# Altium footprint library PCB_Altium_Library_Manuel.PcbLib: 63 footprints (part 4 of 4)
Each footprint in its own frame and in the unit in brackets; x right, y up, seen from the top. Pads: shape width x height; smd on the part's side, far side on the other; paste and mask are expansions set on the pad; w line width, h text height; cw(c..) or ccw(c..) is an arc to the next point about the centre after c.
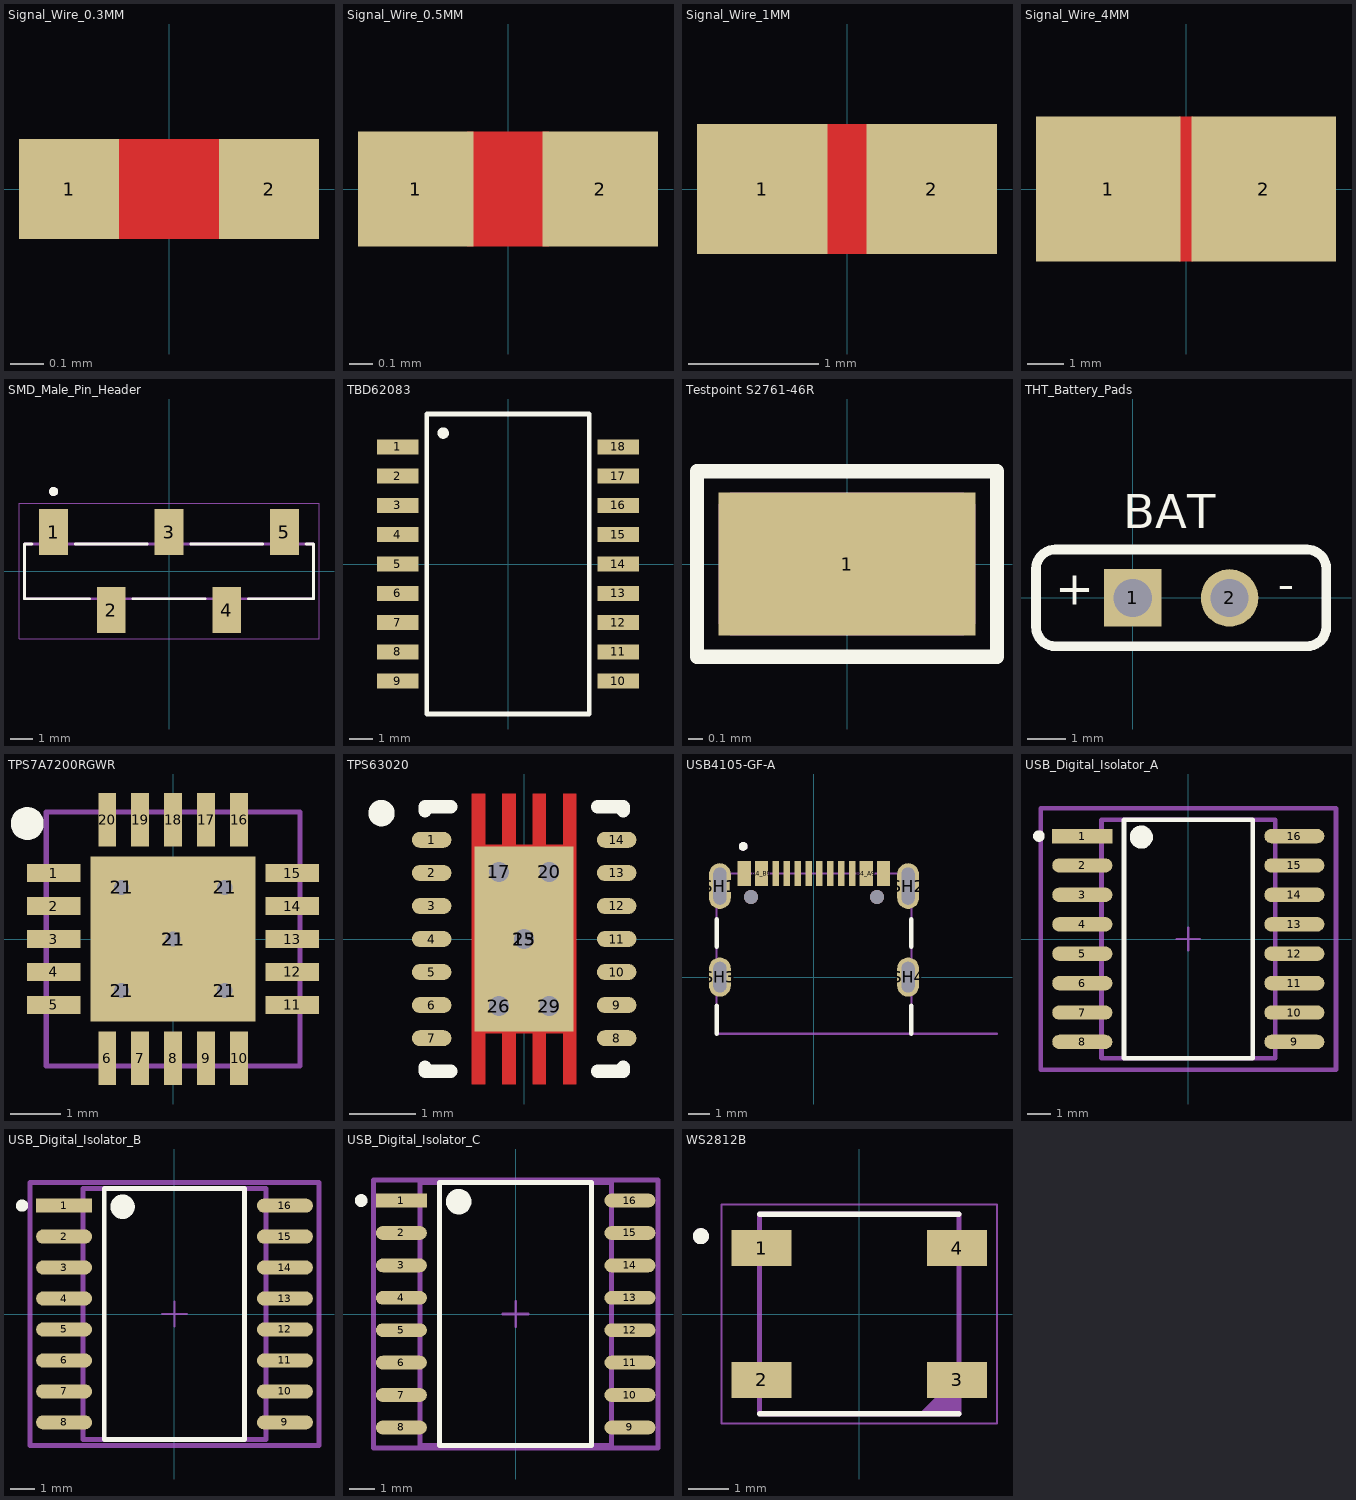
[diagram p3: the footprints below, top view; thin cyan lines are the x and y axes]

## Signal_Wire_0.3MM [mm] "Signal wire to connect two different signals in schematic"
pads (2):
  rect 0.3x0.3 smd paste-0.2 mask-0.2: 1(-0.3,0) 2(0.3,0)
Top Layer:
  rectangle: -0.2,-0.15 0.2,0.15

## Signal_Wire_0.5MM [mm] "Signal wire to connect two different signals in schematic"
pads (2):
  rect 0.5x0.5 smd paste-0.4 mask+0.102: 1(-0.4,0) 2(0.4,0)
Top Layer:
  rectangle: -0.175,-0.25 0.175,0.25

## Signal_Wire_1MM [mm] "Signal wire to connect two different signals in schematic"
pads (2):
  rect 1x1 smd paste-0.8 mask+0.102: 1(-0.65,0) 2(0.65,0)
Top Layer:
  rectangle: -0.175,-0.5 0.175,0.5

## Signal_Wire_4MM [mm] "Signal wire (Power) to connect two different signals in schematic"
pads (2):
  rect 4x4 smd paste-3 mask+0.102: 1(-2.15,0) 2(2.15,0)
Top Layer:
  rectangle: -0.2,-2 0.2,2

## SMD_Male_Pin_Header [mm] "10129380-905001BLF, 5x1 2.54mm Male Pin Header."
pads (5):
  rect 1.27x2.03 smd: 1(-5.08,1.715) 2(-2.54,-1.715) 3(0,1.715) 4(2.54,-1.715) 5(5.08,1.715)
Top Overlay:
  circle w0.2: c-5.08,3.5 r0.1
  lines w0.127: -6.035,1.19 -6.35,1.19 -6.35,-1.22 -3.495,-1.22 ; -4.125,1.19 -0.955,1.19 ; -1.585,-1.22 1.585,-1.22 ; 0.955,1.19 4.125,1.19 ; 3.495,-1.22 6.35,-1.22 6.35,1.19 6.035,1.19
Mechanical 13:
  circle w0.2: c-5.08,3.5 r0.1
  lines w0.127: -6.35,-1.22 -6.35,1.19 6.35,1.19 6.35,-1.22 -6.35,-1.22
Mechanical 15:
  lines w0.05: -6.6,-2.98 -6.6,2.98 6.6,2.98 6.6,-2.98 -6.6,-2.98
3D body "step_temp.STEP": height 9.85, standoff 0, extent -6.35,-2.415 6.35,2.415

## TBD62083 [mm] "Gate Drivers DMOS Transistor Array 8-CH, 50V/0.5A SOP-18"
pads (18):
  rect 1.8x0.65 smd: 1(-4.775,5.08) 2(-4.775,3.81) 3(-4.775,2.54) 4(-4.775,1.27) 5(-4.775,0) 6(-4.775,-1.27) 7(-4.775,-2.54) 8(-4.775,-3.81) 9(-4.775,-5.08) 10(4.775,-5.08) 11(4.775,-3.81) 12(4.775,-2.54) 13(4.775,-1.27) 14(4.775,0) 15(4.775,1.27) 16(4.775,2.54) 17(4.775,3.81) 18(4.775,5.08)
Top Overlay:
  circle w0.3: c-2.809,5.673 r0.1
  lines w0.2: -3.525,-6.5 3.525,-6.5 3.525,6.5 -3.525,6.5 -3.525,-6.5
Mechanical 15:
  lines w0.1: -3.5,-6.5 3.5,-6.5 3.5,6.5 -3.5,6.5 -3.5,-6.5
3D body "TBD62083AFG,EL.stp": height 2.45, standoff 0, extent -5.15,-6.5 5.15,6.5

## Testpoint S2761-46R [mm] "Prüfstecker und Messbuchsen EZ BoardWare S27 SMT Mini Test Terminal, Reel"
pads (1):
  rect 1.8x1 smd: 1(0,0)
Top Overlay:
  lines w0.1: -1.05,-0.65 -1.05,0.65 1.05,0.65 1.05,-0.65 -1.05,-0.65
Mechanical 15:
  lines w0.2: -0.8,-0.4 -0.8,0.4 0.8,0.4 0.8,-0.4 -0.8,-0.4
3D body "S2761-46R.stp": height 1.23, standoff 0.05, extent -0.8,-0.4 0.8,0.4

## THT_Battery_Pads [mm] "Pads to connect battery"
pads (2):
  rect 1.508x1.508 / inner round 1.508 / far side rect 1.508x1.508 hole 1: 1(0,0)
  round 1.508 hole 1: 2(2.54,0)
Top Overlay:
  lines w0.254: -2.54,-0.762 ccw(c-2.032,-0.762) -2.032,-1.27 4.572,-1.27 ccw(c4.572,-0.762) 5.08,-0.762 5.08,0.762 ccw(c4.572,0.762) 4.572,1.27 -2.032,1.27 ccw(c-2.032,0.762) -2.54,0.762 -2.54,-0.762
  text "-" at 3.81,-0.353 h1.52
  text "+" at -2.032,-0.48 h1.52
  text "BAT" at -0.254,1.524 h1.52

## TPS7A7200RGWR [mm] "Festspannungsregler 3V, Mouser Nr. 595-TPS7A7200RGWR"
pads (26):
  rect 1.05x0.35 smd: 1(-2.35,1.3) 2(-2.35,0.65) 3(-2.35,0) 4(-2.35,-0.65) 5(-2.35,-1.3) 11(2.35,-1.3) 12(2.35,-0.65) 13(2.35,0) 14(2.35,0.65) 15(2.35,1.3)
  rect 0.35x1.05 smd: 6(-1.3,-2.35) 7(-0.65,-2.35) 8(0,-2.35) 9(0.65,-2.35) 10(1.3,-2.35) 16(1.3,2.35) 17(0.65,2.35) 18(0,2.35) 19(-0.65,2.35) 20(-1.3,2.35)
  round 0.7 hole 0.3: 21(-1.016,-1.016) 21(-1.016,1.016) 21(0,0) 21(1.016,-1.016) 21(1.016,1.016)
  rect 3.25x3.25 smd: 21(0,0)
Top Overlay:
  circle w0.325: c-2.875,2.275 r0.162
Mechanical 13:
  lines w0.1: -2.5,-2.5 2.5,-2.5 2.5,2.5 -2.5,2.5 -2.5,-2.5
3D body "TPS7A7200RGWR.stp": height 1, standoff 0, extent -2.5,-2.5 2.5,2.5

## TPS63020 [mm] "Buck-Boost-Converter, Input: 1.8V-5.5V, Output:  1.2 V to 5.5 V, VSON-14"
pads (20):
  oval 0.6x0.24 smd mask+0: 1(-1.4,1.5) 2(-1.4,1) 3(-1.4,0.5) 4(-1.4,0) 5(-1.4,-0.5) 6(-1.4,-1) 7(-1.4,-1.5) 8(1.4,-1.5) 9(1.4,-1) 10(1.4,-0.5) 11(1.4,0) 12(1.4,0.5) 13(1.4,1) 14(1.4,1.5)
  rect 1.5x2.8 smd paste-2 mask+0: 15(0,0)
  round 0.7 hole 0.3: 17(-0.381,1.016) 20(0.381,1.016) 23(0,0) 26(-0.381,-1.016) 29(0.381,-1.016)
Top Layer:
  region: 0.79,-2.2 0.59,-2.2 0.59,-1.425 0.33,-1.425 0.33,-2.2 0.13,-2.2 0.13,-1.425 -0.13,-1.425 -0.13,-2.2 -0.33,-2.2 -0.33,-1.425 -0.59,-1.425 -0.59,-2.2 -0.79,-2.2 -0.79,2.2 -0.59,2.2 -0.59,1.425 -0.33,1.425 -0.33,2.2 -0.13,2.2 -0.13,1.425 0.13,1.425 0.13,2.2 0.33,2.2 0.33,1.425 0.59,1.425 0.59,2.2 0.79,2.2
Top Overlay:
  circle w0.2: c-2.159,1.905 r0.1
  lines w0.2: -1.5,-1.94 -1.5,-2 -1.11,-2 ; -1.5,1.94 -1.5,2 -1.11,2 ; 1.11,-2 1.5,-2 1.5,-1.94 ; 1.11,2 1.5,2 1.5,1.94
Top Paste:
  region: -0.13,0.1 -0.79,0.1 -0.79,2.2 -0.59,2.2 -0.59,1.35 -0.33,1.35 -0.33,2.2 -0.13,2.2
  region: 0.79,0.1 0.13,0.1 0.13,2.2 0.33,2.2 0.33,1.35 0.59,1.35 0.59,2.2 0.79,2.2
  region: 0.79,-2.2 0.59,-2.2 0.59,-1.35 0.33,-1.35 0.33,-2.2 0.13,-2.2 0.13,-0.1 0.79,-0.1
  region: -0.13,-2.2 -0.33,-2.2 -0.33,-1.35 -0.59,-1.35 -0.59,-2.2 -0.79,-2.2 -0.79,-0.1 -0.13,-0.1
Top Solder:
  drawing of 15 lines, arcs and shapes, not listed
3D body "step_temp.STEP": height 1, standoff 0, extent -1.5,-2 1.5,2

## USB4105-GF-A [mm]
pads (18):
  rect 0.6x1.15 smd mask+0.05: A1_B12(-3.2,4.755) A4_B9(-2.4,4.755) B1_A12(3.2,4.755) B4_A9(2.4,4.755)
  rect 0.3x1.15 smd mask+0.05: A5(-1.25,4.755) A6(-0.25,4.755) A7(0.25,4.755) A8(1.25,4.755) B5(1.75,4.755) B6(0.75,4.755) B7(-0.75,4.755) B8(-1.75,4.755)
  oval 1x2.1 hole 0.6 slot 1.7 at 90 deg: SH1(-4.32,4.18) SH2(4.32,4.18)
  oval 1x1.8 hole 0.6 slot 1.4 at 90 deg: SH3(-4.32,0) SH4(4.32,0)
  round 0.65 hole 0.65 unplated: ""(-2.89,3.68) ""(2.89,3.68)
Top Overlay:
  circle w0.2: c-3.25,6 r0.1
  lines w0.2: -4.47,-2.6 -4.47,-1.32 ; -4.47,1.4 -4.47,2.65 ; 4.47,-2.6 4.47,-1.32 ; 4.47,1.4 4.47,2.65
Mechanical 13:
  circle w0.2: c-3.25,6 r0.1
  lines w0.1: 8.4,-2.6 4.47,-2.6 ; 4.47,-2.6 -4.47,-2.6 -4.47,4.75 4.47,4.75 4.47,-2.6
  text "PCB EDGE" at 5.4,-2.5 h0.41
3D body "USB4105-GF-A--3DModel-STEP-510211.STEP": height 3.31, standoff -1.1, extent -4.47,-2.6 4.47,5.11

## USB_Digital_Isolator_A [mm] "ADUM3160BRWZ, DGT ISOL 2500VRMS 2CH USB 16SOIC."
pads (16):
  rect 2.598x0.622 smd paste+0 mask+0: 1(-4.578,4.445)
  rrect100% 2.598x0.622 smd paste+0 mask+0: 2(-4.578,3.175) 3(-4.578,1.905) 4(-4.578,0.635) 5(-4.578,-0.635) 6(-4.578,-1.905) 7(-4.578,-3.175) 8(-4.578,-4.445) 9(4.578,-4.445) 10(4.578,-3.175) 11(4.578,-1.905) 12(4.578,-0.635) 13(4.578,0.635) 14(4.578,1.905) 15(4.578,3.175) 16(4.578,4.445)
Top Overlay:
  circle w0.25: c-6.452,4.445 r0.125
  circle w0.5: c-2.029,4.4 r0.25
  lines w0.2: -2.779,-5.15 -2.779,5.15 2.779,5.15 2.779,-5.15 -2.779,-5.15
Top 3D Body:
  lines w0.2: -3.75,-5.15 -3.75,5.15 3.75,5.15 3.75,-5.15 -3.75,-5.15
Top Courtyard:
  lines w0.2: -6.377,-5.65 -6.377,5.65 6.377,5.65 6.377,-5.65 -6.377,-5.65
Top Assembly:
  lines w0.2: -6.377,-5.65 -6.377,5.65 6.377,5.65 6.377,-5.65 -6.377,-5.65
  text ".Designator" at 0,0.188 h1
Top Component Center:
  lines w0.1: -0.5,0 0.5,0 ; 0,-0.5 0,0.5
3D body "IC_Analog_Devices_ADM2486BRWZ_eec.STEP": height 0.25, standoff 0, extent -6.377,-5.65 6.377,5.65

## USB_Digital_Isolator_B [mm] "ADUM3160BRWZ, DGT ISOL 2500VRMS 2CH USB 16SOIC."
pads (16):
  rect 2.298x0.582 smd paste+0 mask+0: 1(-4.528,4.445)
  rrect100% 2.298x0.582 smd paste+0 mask+0: 2(-4.528,3.175) 3(-4.528,1.905) 4(-4.528,0.635) 5(-4.528,-0.635) 6(-4.528,-1.905) 7(-4.528,-3.175) 8(-4.528,-4.445) 9(4.528,-4.445) 10(4.528,-3.175) 11(4.528,-1.905) 12(4.528,-0.635) 13(4.528,0.635) 14(4.528,1.905) 15(4.528,3.175) 16(4.528,4.445)
Top Overlay:
  circle w0.5: c-2.129,4.4 r0.25
  circle w0.25: c-6.252,4.445 r0.125
  lines w0.2: -2.879,-5.15 2.879,-5.15 2.879,5.15 -2.879,5.15 -2.879,-5.15
Top 3D Body:
  lines w0.2: -3.75,-5.15 3.75,-5.15 3.75,5.15 -3.75,5.15 -3.75,-5.15
Board:
  lines w0.2: -5.927,-5.4 5.927,-5.4 5.927,5.4 -5.927,5.4 -5.927,-5.4
Top Assembly:
  lines w0.2: -5.927,-5.4 5.927,-5.4 5.927,5.4 -5.927,5.4 -5.927,-5.4
  text ".Designator" at 0,0.188 h1
Top Component Center:
  lines w0.1: -0.5,0 0.5,0 ; 0,-0.5 0,0.5
3D body "IC_Analog_Devices_ADM2486BRWZ_eec.STEP": height 0.25, standoff 0, extent -5.927,-5.4 5.927,5.4

## USB_Digital_Isolator_C [mm] "ADUM3160BRWZ, DGT ISOL 2500VRMS 2CH USB 16SOIC."
pads (16):
  rect 1.998x0.542 smd paste+0 mask+0: 1(-4.478,4.445)
  rrect100% 1.998x0.542 smd paste+0 mask+0: 2(-4.478,3.175) 3(-4.478,1.905) 4(-4.478,0.635) 5(-4.478,-0.635) 6(-4.478,-1.905) 7(-4.478,-3.175) 8(-4.478,-4.445) 9(4.478,-4.445) 10(4.478,-3.175) 11(4.478,-1.905) 12(4.478,-0.635) 13(4.478,0.635) 14(4.478,1.905) 15(4.478,3.175) 16(4.478,4.445)
Top Overlay:
  circle w0.25: c-6.052,4.445 r0.125
  circle w0.5: c-2.229,4.4 r0.25
  lines w0.2: -2.979,-5.15 -2.979,5.15 2.979,5.15 2.979,-5.15 -2.979,-5.15
Top 3D Body:
  lines w0.2: -3.75,-5.15 -3.75,5.15 3.75,5.15 3.75,-5.15 -3.75,-5.15
Board:
  lines w0.2: -5.577,-5.25 -5.577,5.25 5.577,5.25 5.577,-5.25 -5.577,-5.25
Top Assembly:
  lines w0.2: -5.577,-5.25 -5.577,5.25 5.577,5.25 5.577,-5.25 -5.577,-5.25
  text ".Designator" at 0,0.188 h1
Top Component Center:
  lines w0.1: -0.5,0 0.5,0 ; 0,-0.5 0,0.5
3D body "IC_Analog_Devices_ADM2486BRWZ_eec.STEP": height 0.25, standoff 0, extent -5.577,-5.25 5.577,5.25

## WS2812B [mm]
pads (4):
  rect 1.5x0.9 smd: 1(-2.45,1.65) 2(-2.45,-1.65) 3(2.45,-1.65) 4(2.45,1.65)
Top Overlay:
  circle w0.2: c-3.97,1.95 r0.1
  lines w0.127: -2.5,-2.5 2.5,-2.5 ; -2.5,2.5 2.5,2.5
Mechanical 13:
  circle w0.2: c-3.97,1.95 r0.1
  region: 2.5,-2.5 1.5,-2.5 2.5,-1.5
  lines w0.127: -2.5,-2.5 -2.5,2.5 2.5,2.5 2.5,-2.5 -2.5,-2.5
Mechanical 15:
  lines w0.05: -3.45,-2.75 3.45,-2.75 3.45,2.75 -3.45,2.75 -3.45,-2.75
3D body "WS2812B--3DModel-STEP-55780.STEP": height 1.56, standoff -0.01, extent -2.7,-2.5 2.7,2.5